# Altium footprint library WS-RPTL.PcbLib: 1 footprints
Each footprint in its own frame and in the unit in brackets; x right, y up, seen from the top. Pads: shape width x height; smd on the part's side, far side on the other; paste and mask are expansions set on the pad; w line width, h text height; cw(c..) or ccw(c..) is an arc to the next point about the centre after c.
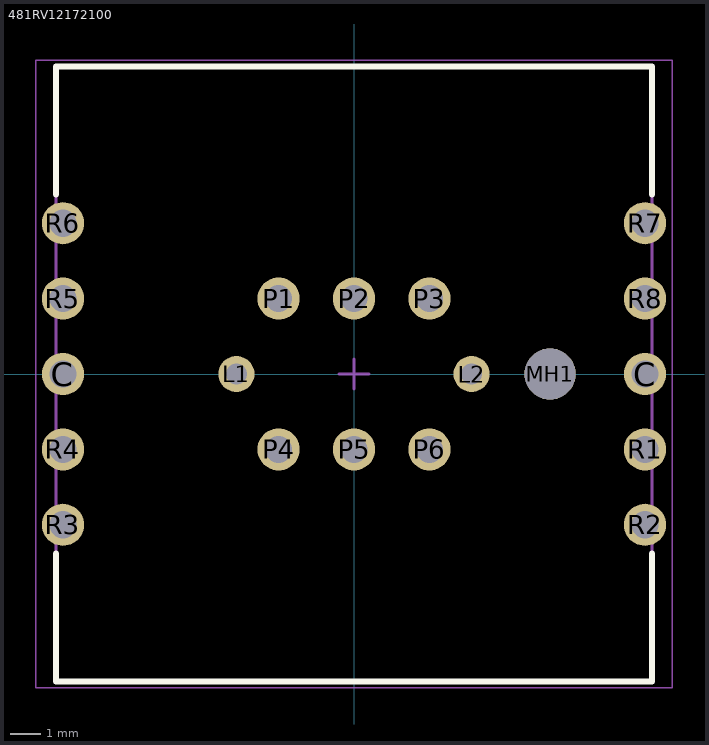
[diagram p0: the footprint, top view; thin cyan lines are the x and y axes]

## 481RV12172100 [mm] "20x20 mm illuminated THT Rotary Push button Switch"
height 14.45
pads (19):
  round 1.4 hole 0.9: C(-9.65,0) C(9.65,0) P1(-2.5,2.5) P2(0,2.5) P3(2.5,2.5) P4(-2.5,-2.5) P5(0,-2.5) P6(2.5,-2.5) R1(9.65,-2.5) R2(9.65,-5) R3(-9.65,-5) R4(-9.65,-2.5) R5(-9.65,2.5) R6(-9.65,5) R7(9.65,5) R8(9.65,2.5)
  round 1.2 hole 0.7: L1(-3.9,0) L2(3.9,0)
  round 1.7 hole 1.7 unplated: MH1(6.5,0)
Top Overlay:
  lines w0.2: -9.875,-5.95 -9.875,-10.2 9.875,-10.2 9.875,-5.95 ; -9.875,5.95 -9.875,10.2 9.875,10.2 9.875,5.95
Top Assembly:
  lines w0.1: -9.875,-10.2 9.875,-10.2 9.875,10.2 -9.875,10.2 -9.875,-10.2
Top Designator:
  text ".Designator" at -5.47,-0.536 h1.5
Top Courtyard:
  lines w0.05: -10.55,-10.4 10.55,-10.4 10.55,10.4 -10.55,10.4 -10.55,-10.4
Top Component Center:
  lines w0.1: -0.5,0 0.5,0 ; 0,-0.5 0,0.5
3D body "481RV12172100.stp": height 14.5, standoff -3.45, extent -9.875,-10.2 9.875,10.2